# Altium footprint library Nixie.PcbLib: 24 footprints (part 1 of 2)
Each footprint in its own frame and in the unit in brackets; x right, y up, seen from the top. Pads: shape width x height; smd on the part's side, far side on the other; paste and mask are expansions set on the pad; w line width, h text height; cw(c..) or ccw(c..) is an arc to the next point about the centre after c.
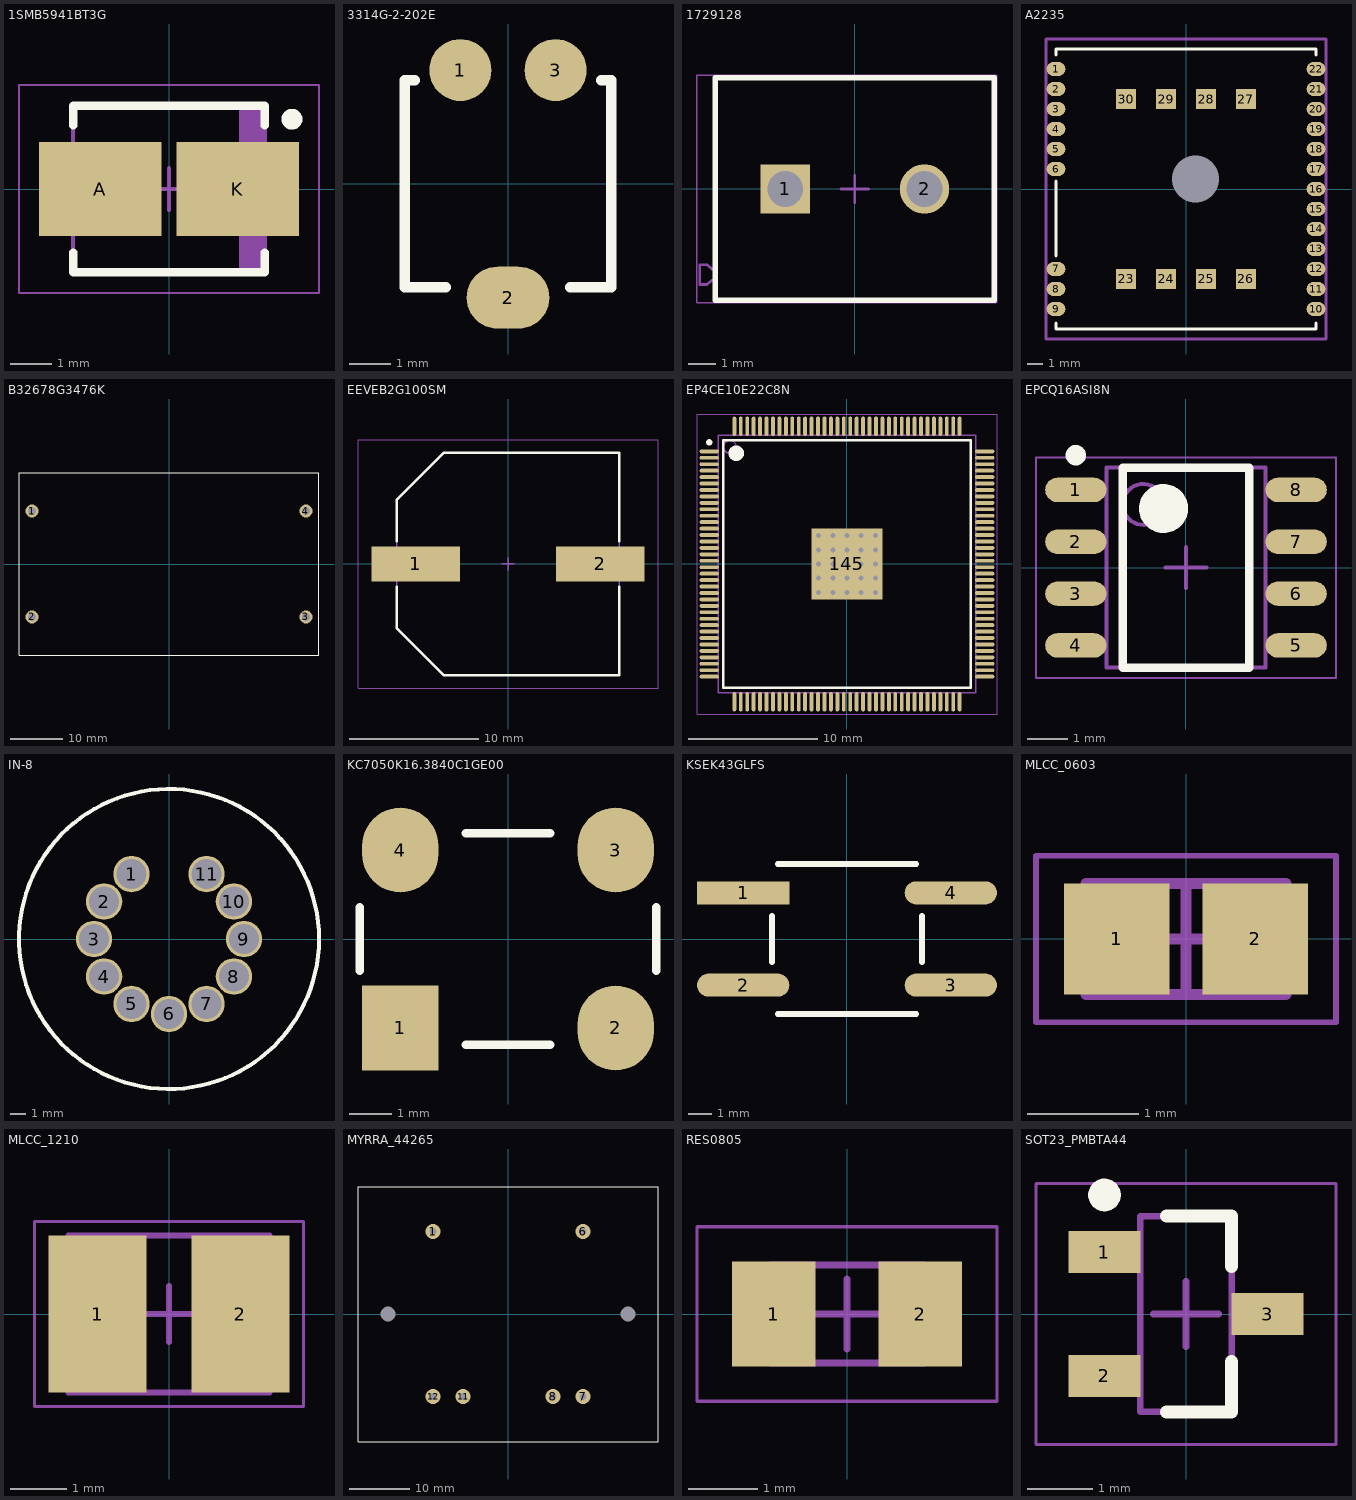
[diagram p0: the footprints below, top view; thin cyan lines are the x and y axes]

## 1SMB5941BT3G [mm] "Molded Diode, 2-Leads, Body 4,33x3,63mm, IPC Low Density"
height 2.28
pads (2):
  rect 2.95x2.25 smd: A(-1.65,0) K(1.65,0)
Top Overlay:
  circle w0.25: c2.95,1.675 r0.125
  lines w0.2: -2.3,-1.525 -2.3,-2 2.3,-2 2.3,-1.525 ; -2.3,1.525 -2.3,2 2.3,2 2.3,1.525
Mechanical 13:
  rectangle: 1.681,-1.975 2.3,1.975
  lines w0.1: -2.3,-1.975 2.3,-1.975 2.3,1.975 -2.3,1.975 -2.3,-1.975
Mechanical 15:
  lines w0.05: -3.6,-2.5 3.6,-2.5 3.6,2.5 -3.6,2.5 -3.6,-2.5
  lines w0.1: -0.5,0 0.5,0 ; 0,-0.5 0,0.5
3D body "DIOM4336X23M.step": height 2.28, standoff 0, extent -2.52,-1.975 2.52,1.975

## 3314G-2-202E [mm] "Trimming potentiometer"
height 2.55
pads (3):
  round 1.5 smd: 1(-1.15,2.75) 3(1.15,2.75)
  oval 2x1.5 smd: 2(0,-2.75)
Top Overlay:
  lines w0.254: -2.25,2.5 -2.5,2.5 -2.5,-2.5 -1.5,-2.5 ; 1.5,-2.5 2.5,-2.5 2.5,2.5 2.25,2.5
3D body "3314G-2.step": height 2.55, standoff 0, extent -2.45,-3.052 2.45,3.048

## 1729128 [mm] "Receptacle, 2-Leads, Body 8.1x10.16mm, Pitch 5.08mm"
height 10.013
pads (2):
  rect 1.8x1.8 hole 1.3: 1(-2.54,0)
  round 1.8 hole 1.3: 2(2.54,0)
Top Overlay:
  lines w0.2: -5.08,-4.05 5.08,-4.05 5.08,4.05 -5.08,4.05 -5.08,-4.05
Mechanical 13:
  lines w0.1: -5.08,-3.327 -5.209,-3.327 -5.387,-3.477 -5.65,-3.477 -5.65,-2.763 ; -5.08,-2.913 -5.209,-2.913 -5.387,-2.763 -5.65,-2.763 ; -5.65,-2.763 -5.65,-2.763 ; -5.08,-4.05 5.08,-4.05 5.08,4.05 -5.08,4.05 -5.08,-4.05
Mechanical 15:
  lines w0.05: -5.75,-4.15 5.18,-4.15 5.18,4.15 -5.75,4.15 -5.75,-4.15
  lines w0.1: -0.5,0 0.5,0 ; 0,-0.5 0,0.5
3D body "1729128.stp": height 10.01, standoff -3.49, extent -5.65,-4.05 5.08,4.05

## A2235 [mm] "GPS module"
pads (31):
  oval 1.2x0.9 smd: 1(-8.255,7.62) 2(-8.255,6.35) 3(-8.255,5.08) 4(-8.255,3.81) 5(-8.255,2.54) 6(-8.255,1.27) 7(-8.255,-5.08) 8(-8.255,-6.35) 9(-8.255,-7.62) 10(8.255,-7.62) 11(8.255,-6.35) 12(8.255,-5.08) 13(8.255,-3.81) 14(8.255,-2.54) 15(8.255,-1.27) 16(8.255,0) 17(8.255,1.27) 18(8.255,2.54) 19(8.255,3.81) 20(8.255,5.08) 21(8.255,6.35) 22(8.255,7.62)
  rect 1.27x1.27 smd: 23(-3.81,-5.715) 24(-1.27,-5.715) 25(1.27,-5.715) 26(3.81,-5.715) 27(3.81,5.715) 28(1.27,5.715) 29(-1.27,5.715) 30(-3.81,5.715)
  round 0 hole 3 unplated: RF(0.605,0.63)
Top Overlay:
  lines w0.2: -8.255,-8.5 -8.255,-8.89 8.255,-8.89 8.255,-8.5 ; -8.255,8.5 -8.255,8.89 8.255,8.89 8.255,8.5 ; -8.25,-4.25 -8.25,0.5
Mechanical 15:
  lines w0.2: -0.635,0 0.635,0 ; 0,-0.635 0,0.635 ; -8.89,-9.525 -8.89,9.525 8.89,9.525 8.89,-9.525 -8.89,-9.525
3D body "A2235-H.step": height 7.1, standoff 0, extent -8.255,-8.89 8.255,8.89

## B32678G3476K [mm]
pads (4):
  round 2.5 hole 1.5: 1(-26.25,10.15) 2(-26.25,-10.15) 3(26.25,-10.15) 4(26.25,10.15)
Top Overlay:
  lines w0.2: -28.75,-17.5 28.75,-17.5 28.75,17.5 -28.75,17.5 -28.75,-17.5
3D body: height 0, standoff -6, extent -26.845,9.551 -25.65,10.749
3D body: height 0, standoff -6, extent -26.845,-10.749 -25.65,-9.551
3D body: height 0, standoff -6, extent 25.655,-10.749 26.85,-9.551
3D body: height 0, standoff -6, extent 25.655,9.551 26.85,10.749
3D body: height 50, standoff 0, extent -28.75,-17.5 28.75,17.5

## EEVEB2G100SM [mm] "Aluminum Electrolytic Capacitor, Body 17,00x17,00x17,00mm, IPC Low Density"
height 17
pads (2):
  rect 6.85x2.7 smd: 1(-7.15,0) 2(7.15,0)
Top Overlay:
  lines w0.2: -8.6,-1.75 -8.6,-4.975 -4.975,-8.6 8.6,-8.6 8.6,-1.75 ; -8.6,1.75 -8.6,4.975 -4.975,8.6 8.6,8.6 8.6,1.75
Mechanical 13:
  lines w0.1: -8.6,-4.975 -8.6,4.975 -4.975,8.6 8.6,8.6 8.6,-8.6 -4.975,-8.6 -8.6,-4.975
Mechanical 15:
  lines w0.05: -11.6,-9.6 11.6,-9.6 11.6,9.6 -11.6,9.6 -11.6,-9.6
  lines w0.1: -0.5,0 0.5,0 ; 0,-0.5 0,0.5
3D body "EEVEB2G100SM.step": height 17, standoff 0, extent -9.5,-8.6 9.5,8.6

## EP4CE10E22C8N [mm] "Cyclone IV Family FPGA, 1.2V Core, 91 I/O Pins, 2 PLLs, 144-Pin QFP, Speed Grade 8, Commercial Grade, Pb-Free"
height 1.65
pads (145):
  oval 1.5x0.3 smd: 1(-10.7,8.75) 2(-10.7,8.25) 3(-10.7,7.75) 4(-10.7,7.25) 5(-10.7,6.75) 6(-10.7,6.25) 7(-10.7,5.75) 8(-10.7,5.25) 9(-10.7,4.75) 10(-10.7,4.25) 11(-10.7,3.75) 12(-10.7,3.25) 13(-10.7,2.75) 14(-10.7,2.25) 15(-10.7,1.75) 16(-10.7,1.25) 17(-10.7,0.75) 18(-10.7,0.25) 19(-10.7,-0.25) 20(-10.7,-0.75) 21(-10.7,-1.25) 22(-10.7,-1.75) 23(-10.7,-2.25) 24(-10.7,-2.75) 25(-10.7,-3.25) 26(-10.7,-3.75) 27(-10.7,-4.25) 28(-10.7,-4.75) 29(-10.7,-5.25) 30(-10.7,-5.75) 31(-10.7,-6.25) 32(-10.7,-6.75) 33(-10.7,-7.25) 34(-10.7,-7.75) 35(-10.7,-8.25) 36(-10.7,-8.75) 73(10.7,-8.75) 74(10.7,-8.25) 75(10.7,-7.75) 76(10.7,-7.25) 77(10.7,-6.75) 78(10.7,-6.25) 79(10.7,-5.75) 80(10.7,-5.25) 81(10.7,-4.75) 82(10.7,-4.25) 83(10.7,-3.75) 84(10.7,-3.25) 85(10.7,-2.75) 86(10.7,-2.25) 87(10.7,-1.75) 88(10.7,-1.25) 89(10.7,-0.75) 90(10.7,-0.25) 91(10.7,0.25) 92(10.7,0.75) 93(10.7,1.25) 94(10.7,1.75) 95(10.7,2.25) 96(10.7,2.75) 97(10.7,3.25) 98(10.7,3.75) 99(10.7,4.25) 100(10.7,4.75) 101(10.7,5.25) 102(10.7,5.75) 103(10.7,6.25) 104(10.7,6.75) 105(10.7,7.25) 106(10.7,7.75) 107(10.7,8.25) 108(10.7,8.75)
  oval 0.3x1.5 smd: 37(-8.75,-10.7) 38(-8.25,-10.7) 39(-7.75,-10.7) 40(-7.25,-10.7) 41(-6.75,-10.7) 42(-6.25,-10.7) 43(-5.75,-10.7) 44(-5.25,-10.7) 45(-4.75,-10.7) 46(-4.25,-10.7) 47(-3.75,-10.7) 48(-3.25,-10.7) 49(-2.75,-10.7) 50(-2.25,-10.7) 51(-1.75,-10.7) 52(-1.25,-10.7) 53(-0.75,-10.7) 54(-0.25,-10.7) 55(0.25,-10.7) 56(0.75,-10.7) 57(1.25,-10.7) 58(1.75,-10.7) 59(2.25,-10.7) 60(2.75,-10.7) 61(3.25,-10.7) 62(3.75,-10.7) 63(4.25,-10.7) 64(4.75,-10.7) 65(5.25,-10.7) 66(5.75,-10.7) 67(6.25,-10.7) 68(6.75,-10.7) 69(7.25,-10.7) 70(7.75,-10.7) 71(8.25,-10.7) 72(8.75,-10.7) 109(8.75,10.7) 110(8.25,10.7) 111(7.75,10.7) 112(7.25,10.7) 113(6.75,10.7) 114(6.25,10.7) 115(5.75,10.7) 116(5.25,10.7) 117(4.75,10.7) 118(4.25,10.7) 119(3.75,10.7) 120(3.25,10.7) 121(2.75,10.7) 122(2.25,10.7) 123(1.75,10.7) 124(1.25,10.7) 125(0.75,10.7) 126(0.25,10.7) 127(-0.25,10.7) 128(-0.75,10.7) 129(-1.25,10.7) 130(-1.75,10.7) 131(-2.25,10.7) 132(-2.75,10.7) 133(-3.25,10.7) 134(-3.75,10.7) 135(-4.25,10.7) 136(-4.75,10.7) 137(-5.25,10.7) 138(-5.75,10.7) 139(-6.25,10.7) 140(-6.75,10.7) 141(-7.25,10.7) 142(-7.75,10.7) 143(-8.25,10.7) 144(-8.75,10.7)
  rect 5.55x5.55 hole 0.381: 145(0,0)
via 2.2,-2.2 diameter 0.762 hole 0.381
via 1.1,-2.2 diameter 0.762 hole 0.381
via 0,-2.2 diameter 0.762 hole 0.381
via -1.1,-2.2 diameter 0.762 hole 0.381
via -2.2,-2.2 diameter 0.762 hole 0.381
via 2.2,-1.1 diameter 0.762 hole 0.381
via 1.1,-1.1 diameter 0.762 hole 0.381
via 0,-1.1 diameter 0.762 hole 0.381
via -1.1,-1.1 diameter 0.762 hole 0.381
via -2.2,-1.1 diameter 0.762 hole 0.381
via 2.2,0 diameter 0.762 hole 0.381
via 1.1,0 diameter 0.762 hole 0.381
via -1.1,0 diameter 0.762 hole 0.381
via -2.2,0 diameter 0.762 hole 0.381
via 2.2,1.1 diameter 0.762 hole 0.381
via 1.1,1.1 diameter 0.762 hole 0.381
via 0,1.1 diameter 0.762 hole 0.381
via -1.1,1.1 diameter 0.762 hole 0.381
via -2.2,1.1 diameter 0.762 hole 0.381
via 2.2,2.2 diameter 0.762 hole 0.381
via 1.1,2.2 diameter 0.762 hole 0.381
via 0,2.2 diameter 0.762 hole 0.381
via -1.1,2.2 diameter 0.762 hole 0.381
via -2.2,2.2 diameter 0.762 hole 0.381
Top Overlay:
  circle w0.6: c-8.6,8.6 r0.3
  circle w0.25: c-10.7,9.45 r0.125
  lines w0.2: -9.6,-9.6 9.6,-9.6 9.6,9.6 -9.6,9.6 -9.6,-9.6
Mechanical 13:
  circle w0.1: c-9.1,9.1 r0.5
  lines w0.1: -10,-10 10,-10 10,10 -10,10 -10,-10
Mechanical 15:
  lines w0.05: -11.65,-11.65 11.65,-11.65 11.65,11.65 -11.65,11.65 -11.65,-11.65
  lines w0.1: -0.5,0 0.5,0 ; 0,-0.5 0,0.5
3D body "ep4ce.step": height 1.65, standoff 0, extent -11,-11 11,11

## EPCQ16ASI8N [mm] "EPCS16 Series, In-system programmable 3.3V serial configuration device, 8-Pin SOIC, 16-Megabit, Industrial Grade, Pb-Free"
height 1.75
pads (8):
  oval 1.5x0.6 smd: 1(-2.7,1.905) 2(-2.7,0.635) 3(-2.7,-0.635) 4(-2.7,-1.905) 5(2.7,-1.905) 6(2.7,-0.635) 7(2.7,0.635) 8(2.7,1.905)
Top Overlay:
  circle w0.25: c-2.7,2.755 r0.125
  circle w0.6: c-0.55,1.45 r0.3
  lines w0.2: -1.55,-2.45 -1.55,2.45 1.55,2.45 1.55,-2.45 -1.55,-2.45
Mechanical 13:
  circle w0.1: c-1.05,1.55 r0.5
  lines w0.1: -1.95,-2.45 -1.95,2.45 1.95,2.45 1.95,-2.45 -1.95,-2.45
Mechanical 15:
  lines w0.05: -3.675,-2.7 -3.675,2.7 3.675,2.7 3.675,-2.7 -3.675,-2.7
  lines w0.1: -0.5,0 0.5,0 ; 0,-0.5 0,0.5
3D body "EPC.step": height 1.75, standoff 0, extent -3,-2.45 3,2.45

## IN-8 [mm] "Nixie tube, with TE 5645518-1 pin receptacles"
height 55
pads (11):
  round 2.31 hole 1.91: 1(-2.375,4.114) 2(-4.114,2.375) 3(-4.75,0) 4(-4.114,-2.375) 5(-2.375,-4.114) 6(0,-4.75) 7(2.375,-4.114) 8(4.114,-2.375) 9(4.75,0) 10(4.114,2.375) 11(2.375,4.114)
Top Overlay:
  circle w0.254: c0,0 r9.5
3D body "IN-8.step": height 57, standoff -5, extent -9.5,-9.5 9.5,9.5

## KC7050K16.3840C1GE00 [mm] "Clock Oscillator, 16.384 MHz, 7x5mm"
height 1.2
pads (4):
  rect 1.8x2 smd: 1(-2.54,-2.1)
  oval 1.8x2 smd: 2(2.54,-2.1) 3(2.54,2.1) 4(-2.54,2.1)
Top Overlay:
  lines w0.2: -3.5,-0.75 -3.5,0.75 ; -1,-2.5 1,-2.5 ; -1,2.5 1,2.5 ; 3.5,-0.75 3.5,0.75
3D body: height 1.2, standoff 0.5, extent -1,-0.8 1,0.8
3D body: height 0.5, standoff 0, extent -3.5,-2.5 3.5,2.5

## KSEK43GLFS [mm] "Low Profile Tact Switch, 4.3 mm height"
height 4.3
pads (4):
  rect 4x1 smd: 1(-4.5,2)
  oval 4x1 smd: 2(-4.5,-2) 3(4.5,-2) 4(4.5,2)
Top Overlay:
  lines w0.254: -3.25,-1 -3.25,1 ; -3,-3.25 3,-3.25 ; -3,3.25 3,3.25 ; 3.25,-1 3.25,1
3D body "KSEK43GLFS.step": height 4.4, standoff 0, extent -5.022,-3.125 5.022,3.125

## MLCC_0603 [mm] "Ceramic capacitor (MLCC), 0603"
height 1
pads (2):
  rect 0.95x1 smd: 1(-0.625,0) 2(0.625,0)
Mechanical 13:
  lines w0.1: -0.9,-0.5 -0.9,0.5 0.9,0.5 0.9,-0.5 -0.9,-0.5
Mechanical 15:
  lines w0.05: -1.35,-0.75 -1.35,0.75 1.35,0.75 1.35,-0.75 -1.35,-0.75
  lines w0.1: -0.5,0 0.5,0 ; 0,-0.5 0,0.5
3D body "MLCC_0603.step": height 1, standoff 0, extent -0.9,-0.5 0.9,0.5

## MLCC_1210 [mm] "Ceramic capacitor (MLCC), 1210"
height 2.8
pads (2):
  rect 1.75x2.8 smd: 1(-1.275,0) 2(1.275,0)
Mechanical 13:
  lines w0.1: -1.8,-1.4 -1.8,1.4 1.8,1.4 1.8,-1.4 -1.8,-1.4
Mechanical 15:
  lines w0.05: -2.4,-1.65 -2.4,1.65 2.4,1.65 2.4,-1.65 -2.4,-1.65
  lines w0.1: -0.5,0 0.5,0 ; 0,-0.5 0,0.5
3D body "MLCC_1210.step": height 2.8, standoff 0, extent -1.8,-1.4 1.8,1.4

## MYRRA_44265 [mm]
pads (8):
  round 2.5 hole 1.2: 1(-12.5,13.75) 6(12.5,13.75) 7(12.5,-13.75) 8(7.5,-13.75) 11(-7.5,-13.75) 12(-12.5,-13.75)
  round 2.2 hole 2.5 unplated: MH1(-20,0) MH2(20,0)
Top Overlay:
  lines w0.2: -25,-21.25 25,-21.25 25,21.25 -25,21.25 -25,-21.25
3D body: height 34.6, standoff 28, extent -17,-15 17,15
3D body: height 28, standoff 0, extent -25,-21.25 25,21.25
3D body: height 0, standoff -3.5, extent -12.897,-14.149 -12.1,-13.351
3D body: height 0, standoff -3.5, extent -7.897,-14.149 -7.1,-13.351
3D body: height 0, standoff -3.5, extent 7.103,-14.149 7.9,-13.351
3D body: height 0, standoff -3.5, extent 12.103,-14.149 12.9,-13.351
3D body: height 0, standoff -3.5, extent 12.103,13.351 12.9,14.149
3D body: height 0, standoff -3.5, extent -12.897,13.351 -12.1,14.149

## RES0805 [mm] "Chip Resistor, 0805"
height 0.5
pads (2):
  rect 1.2x1.5 smd: 1(-1.05,0) 2(1.05,0)
Mechanical 13:
  lines w0.1: -1.1,-0.7 -1.1,0.7 1.1,0.7 1.1,-0.7 -1.1,-0.7
Mechanical 15:
  lines w0.05: -2.15,-1.25 -2.15,1.25 2.15,1.25 2.15,-1.25 -2.15,-1.25
  lines w0.1: -0.5,0 0.5,0 ; 0,-0.5 0,0.5
3D body "RESC2112X05M.step": height 0.5, standoff 0, extent -1.1,-0.7 1.1,0.7

## SOT23_PMBTA44 [mm] "SOT23, 3-Leads, Body 2,90x2,30mm, Pitch 0,95mm, IPC Low Density"
height 1.1
pads (3):
  rect 1.1x0.65 smd: 1(-1.25,0.95) 2(-1.25,-0.95) 3(1.25,0)
Top Overlay:
  circle w0.25: c-1.25,1.825 r0.125
  lines w0.2: -0.3,-1.5 0.7,-1.5 0.7,-0.725 ; -0.3,1.5 0.7,1.5 0.7,0.725
Mechanical 13:
  lines w0.1: -0.7,-1.5 0.7,-1.5 0.7,1.5 -0.7,1.5 -0.7,-1.5
Mechanical 15:
  lines w0.05: -2.3,-2 2.3,-2 2.3,2 -2.3,2 -2.3,-2
  lines w0.1: -0.5,0 0.5,0 ; 0,-0.5 0,0.5
3D body "SOT95P230X110-3M.step": height 1.1, standoff 0, extent -1.25,-1.5 1.25,1.5